# EAGLE library part SERVO8 (library 2021-07-02 OrangeHat Library)
SERVO Combined servo connector symbol to tidy up schematics
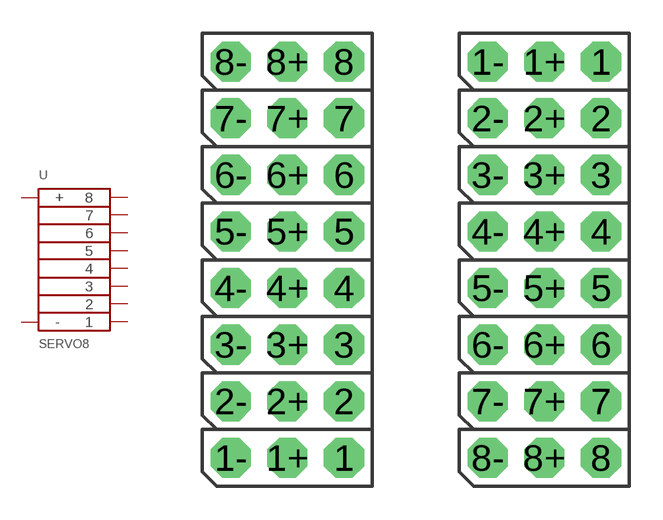
[diagram p9: symbol with the pads of SERVO8; footprints SERVO8, SERVO8#]

Designator prefix -

## SERVO8-U  [SERVO8]
1  1  in
1+  +  pwr
1-  -  pwr
2  2  in
2+  +  pwr
2-  -  pwr
3  3  in
3+  +  pwr
3-  -  pwr
4  4  in
4+  +  pwr
4-  -  pwr
5  5  in
5+  +  pwr
5-  -  pwr
6  6  in
6+  +  pwr
6-  -  pwr
7  7  in
7+  +  pwr
7-  -  pwr
8  8  in
8+  +  pwr
8-  -  pwr

## SERVO8-D  [SERVO8#]
Pads as for SERVO8

## Footprint SERVO8 (pad centres in mm)
SERVO Combined servo connector symbol to tidy up schematics
drill 1 pad 1.8 octagon: 1 5.08,0; 1+ 2.54,0; 1- 0,0; 2 5.08,2.54; 2+ 2.54,2.54; 2- 0,2.54; 3 5.08,5.08; 3+ 2.54,5.08; 3- 0,5.08; 4 5.08,7.62; 4+ 2.54,7.62; 4- 0,7.62; 5 5.08,10.16; 5+ 2.54,10.16; 5- 0,10.16; 6 5.08,12.7; 6+ 2.54,12.7; 6- 0,12.7; 7 5.08,15.24; 7+ 2.54,15.24; 7- 0,15.24; 8 5.08,17.78; 8+ 2.54,17.78; 8- 0,17.78

## Footprint SERVO8# (pad centres in mm)
SERVO Combined servo connector symbol to tidy up schematics
drill 1 pad 1.8 octagon: 1 5.08,17.78; 1+ 2.54,17.78; 1- 0,17.78; 2 5.08,15.24; 2+ 2.54,15.24; 2- 0,15.24; 3 5.08,12.7; 3+ 2.54,12.7; 3- 0,12.7; 4 5.08,10.16; 4+ 2.54,10.16; 4- 0,10.16; 5 5.08,7.62; 5+ 2.54,7.62; 5- 0,7.62; 6 5.08,5.08; 6+ 2.54,5.08; 6- 0,5.08; 7 5.08,2.54; 7+ 2.54,2.54; 7- 0,2.54; 8 5.08,0; 8+ 2.54,0; 8- 0,0